# Altium footprint library BGA (1.27mm Pitch, Square2).PcbLib: 13 footprints (part 1 of 2)
Each footprint in its own frame and in the unit in brackets; x right, y up, seen from the top. Pads: shape width x height; smd on the part's side, far side on the other; paste and mask are expansions set on the pad; w line width, h text height; cw(c..) or ccw(c..) is an arc to the next point about the centre after c.
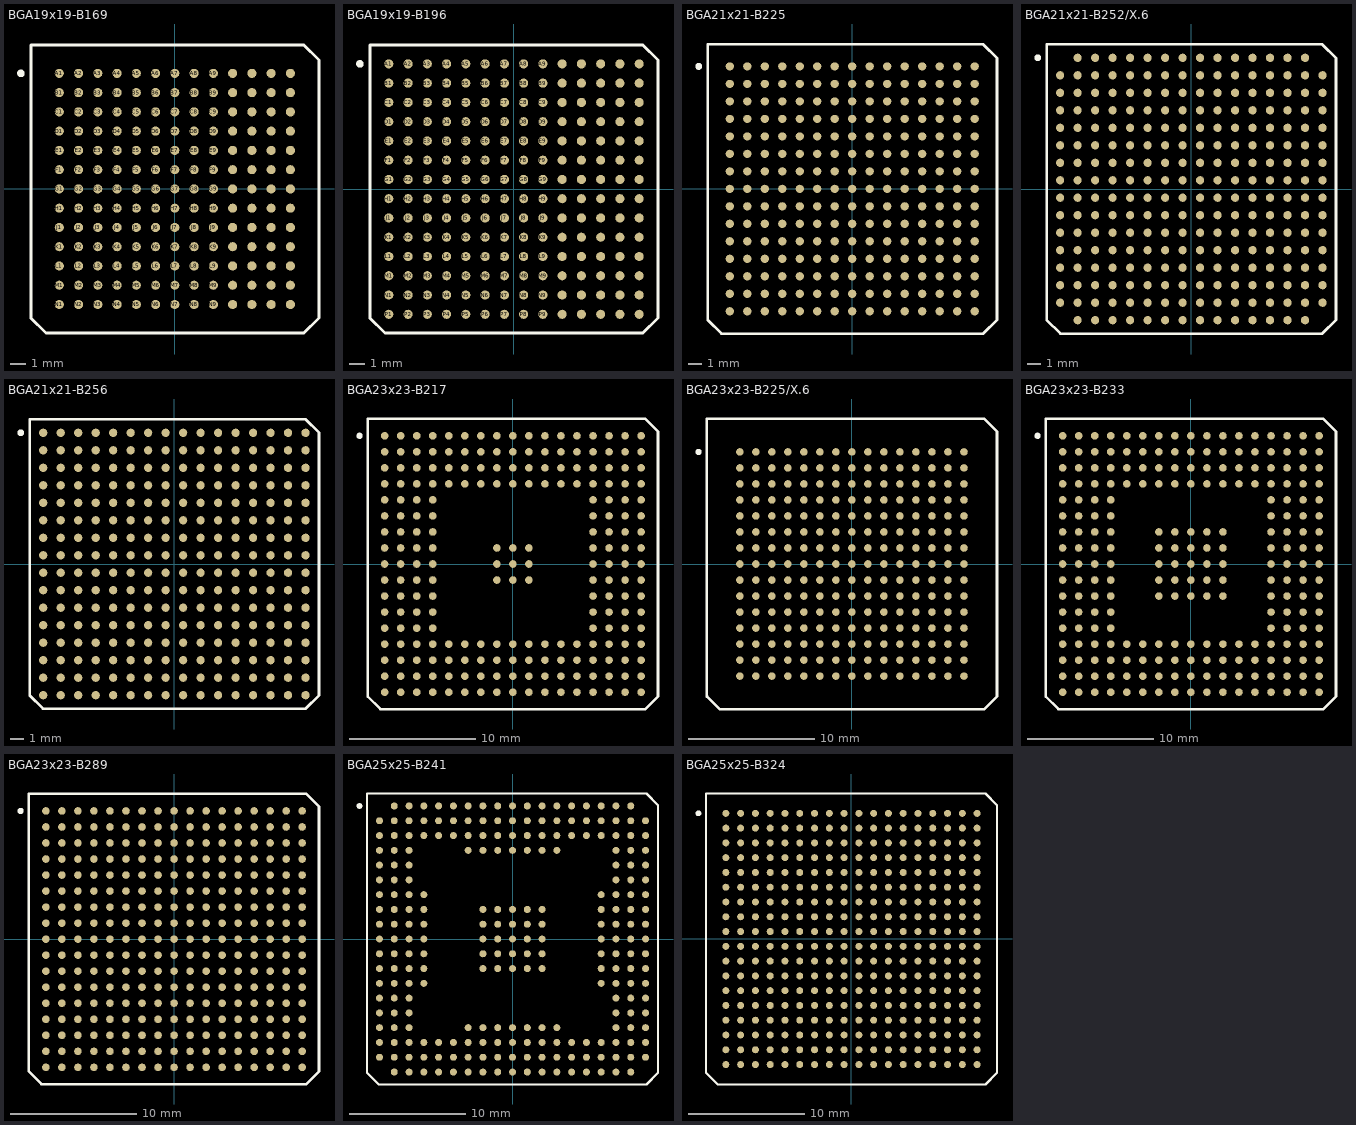
[diagram p0: the footprints below, top view; thin cyan lines are the x and y axes]

## BGA19x19-B169 [mm] "BGA; 169 Balls; Body 19 x 19 mm; Pitch 1.27 mm"
height 3.5
pads (169):
  round 0.6 smd: A1(-7.62,7.62) A2(-6.35,7.62) A3(-5.08,7.62) A4(-3.81,7.62) A5(-2.54,7.62) A6(-1.27,7.62) A7(0,7.62) A8(1.27,7.62) A9(2.54,7.62) A10(3.81,7.62) A11(5.08,7.62) A12(6.35,7.62) A13(7.62,7.62) B1(-7.62,6.35) B2(-6.35,6.35) B3(-5.08,6.35) B4(-3.81,6.35) B5(-2.54,6.35) B6(-1.27,6.35) B7(0,6.35) B8(1.27,6.35) B9(2.54,6.35) B10(3.81,6.35) B11(5.08,6.35) B12(6.35,6.35) B13(7.62,6.35) C1(-7.62,5.08) C2(-6.35,5.08) C3(-5.08,5.08) C4(-3.81,5.08) C5(-2.54,5.08) C6(-1.27,5.08) C7(0,5.08) C8(1.27,5.08) C9(2.54,5.08) C10(3.81,5.08) C11(5.08,5.08) C12(6.35,5.08) C13(7.62,5.08) D1(-7.62,3.81) D2(-6.35,3.81) D3(-5.08,3.81) D4(-3.81,3.81) D5(-2.54,3.81) D6(-1.27,3.81) D7(0,3.81) D8(1.27,3.81) D9(2.54,3.81) D10(3.81,3.81) D11(5.08,3.81) D12(6.35,3.81) D13(7.62,3.81) E1(-7.62,2.54) E2(-6.35,2.54) E3(-5.08,2.54) E4(-3.81,2.54) E5(-2.54,2.54) E6(-1.27,2.54) E7(0,2.54) E8(1.27,2.54) E9(2.54,2.54) E10(3.81,2.54) E11(5.08,2.54) E12(6.35,2.54) E13(7.62,2.54) F1(-7.62,1.27) F2(-6.35,1.27) F3(-5.08,1.27) F4(-3.81,1.27) F5(-2.54,1.27) F6(-1.27,1.27) F7(0,1.27) F8(1.27,1.27) F9(2.54,1.27) F10(3.81,1.27) F11(5.08,1.27) F12(6.35,1.27) F13(7.62,1.27) G1(-7.62,0) G2(-6.35,0) G3(-5.08,0) G4(-3.81,0) G5(-2.54,0) G6(-1.27,0) G7(0,0) G8(1.27,0) G9(2.54,0) G10(3.81,0) G11(5.08,0) G12(6.35,0) G13(7.62,0) H1(-7.62,-1.27) H2(-6.35,-1.27) H3(-5.08,-1.27) H4(-3.81,-1.27) H5(-2.54,-1.27) H6(-1.27,-1.27) H7(0,-1.27) H8(1.27,-1.27) H9(2.54,-1.27) H10(3.81,-1.27) H11(5.08,-1.27) H12(6.35,-1.27) H13(7.62,-1.27) J1(-7.62,-2.54) J2(-6.35,-2.54) J3(-5.08,-2.54) J4(-3.81,-2.54) J5(-2.54,-2.54) J6(-1.27,-2.54) J7(0,-2.54) J8(1.27,-2.54) J9(2.54,-2.54) J10(3.81,-2.54) J11(5.08,-2.54) J12(6.35,-2.54) J13(7.62,-2.54) K1(-7.62,-3.81) K2(-6.35,-3.81) K3(-5.08,-3.81) K4(-3.81,-3.81) K5(-2.54,-3.81) K6(-1.27,-3.81) K7(0,-3.81) K8(1.27,-3.81) K9(2.54,-3.81) K10(3.81,-3.81) K11(5.08,-3.81) K12(6.35,-3.81) K13(7.62,-3.81) L1(-7.62,-5.08) L2(-6.35,-5.08) L3(-5.08,-5.08) L4(-3.81,-5.08) L5(-2.54,-5.08) L6(-1.27,-5.08) L7(0,-5.08) L8(1.27,-5.08) L9(2.54,-5.08) L10(3.81,-5.08) L11(5.08,-5.08) L12(6.35,-5.08) L13(7.62,-5.08) M1(-7.62,-6.35) M2(-6.35,-6.35) M3(-5.08,-6.35) M4(-3.81,-6.35) M5(-2.54,-6.35) M6(-1.27,-6.35) M7(0,-6.35) M8(1.27,-6.35) M9(2.54,-6.35) M10(3.81,-6.35) M11(5.08,-6.35) M12(6.35,-6.35) M13(7.62,-6.35) N1(-7.62,-7.62) N2(-6.35,-7.62) N3(-5.08,-7.62) N4(-3.81,-7.62) N5(-2.54,-7.62) N6(-1.27,-7.62) N7(0,-7.62) N8(1.27,-7.62) N9(2.54,-7.62) N10(3.81,-7.62) N11(5.08,-7.62) N12(6.35,-7.62) N13(7.62,-7.62)
Top Overlay:
  circle w0.25: c-10.15,7.62 r0.125
  lines w0.2: -9.495,-8.505 -9.495,9.495 8.505,9.495 9.505,8.495 9.505,-8.505 8.505,-9.505 -8.495,-9.505 -9.495,-8.505

## BGA19x19-B196 [mm] "BGA; 196 Balls; Body 19 x 19 mm; Pitch 1.27 mm"
height 3.5
pads (196):
  round 0.6 smd: A1(-8.255,8.255) A2(-6.985,8.255) A3(-5.715,8.255) A4(-4.445,8.255) A5(-3.175,8.255) A6(-1.905,8.255) A7(-0.635,8.255) A8(0.635,8.255) A9(1.905,8.255) A10(3.175,8.255) A11(4.445,8.255) A12(5.715,8.255) A13(6.985,8.255) A14(8.255,8.255) B1(-8.255,6.985) B2(-6.985,6.985) B3(-5.715,6.985) B4(-4.445,6.985) B5(-3.175,6.985) B6(-1.905,6.985) B7(-0.635,6.985) B8(0.635,6.985) B9(1.905,6.985) B10(3.175,6.985) B11(4.445,6.985) B12(5.715,6.985) B13(6.985,6.985) B14(8.255,6.985) C1(-8.255,5.715) C2(-6.985,5.715) C3(-5.715,5.715) C4(-4.445,5.715) C5(-3.175,5.715) C6(-1.905,5.715) C7(-0.635,5.715) C8(0.635,5.715) C9(1.905,5.715) C10(3.175,5.715) C11(4.445,5.715) C12(5.715,5.715) C13(6.985,5.715) C14(8.255,5.715) D1(-8.255,4.445) D2(-6.985,4.445) D3(-5.715,4.445) D4(-4.445,4.445) D5(-3.175,4.445) D6(-1.905,4.445) D7(-0.635,4.445) D8(0.635,4.445) D9(1.905,4.445) D10(3.175,4.445) D11(4.445,4.445) D12(5.715,4.445) D13(6.985,4.445) D14(8.255,4.445) E1(-8.255,3.175) E2(-6.985,3.175) E3(-5.715,3.175) E4(-4.445,3.175) E5(-3.175,3.175) E6(-1.905,3.175) E7(-0.635,3.175) E8(0.635,3.175) E9(1.905,3.175) E10(3.175,3.175) E11(4.445,3.175) E12(5.715,3.175) E13(6.985,3.175) E14(8.255,3.175) F1(-8.255,1.905) F2(-6.985,1.905) F3(-5.715,1.905) F4(-4.445,1.905) F5(-3.175,1.905) F6(-1.905,1.905) F7(-0.635,1.905) F8(0.635,1.905) F9(1.905,1.905) F10(3.175,1.905) F11(4.445,1.905) F12(5.715,1.905) F13(6.985,1.905) F14(8.255,1.905) G1(-8.255,0.635) G2(-6.985,0.635) G3(-5.715,0.635) G4(-4.445,0.635) G5(-3.175,0.635) G6(-1.905,0.635) G7(-0.635,0.635) G8(0.635,0.635) G9(1.905,0.635) G10(3.175,0.635) G11(4.445,0.635) G12(5.715,0.635) G13(6.985,0.635) G14(8.255,0.635) H1(-8.255,-0.635) H2(-6.985,-0.635) H3(-5.715,-0.635) H4(-4.445,-0.635) H5(-3.175,-0.635) H6(-1.905,-0.635) H7(-0.635,-0.635) H8(0.635,-0.635) H9(1.905,-0.635) H10(3.175,-0.635) H11(4.445,-0.635) H12(5.715,-0.635) H13(6.985,-0.635) H14(8.255,-0.635) J1(-8.255,-1.905) J2(-6.985,-1.905) J3(-5.715,-1.905) J4(-4.445,-1.905) J5(-3.175,-1.905) J6(-1.905,-1.905) J7(-0.635,-1.905) J8(0.635,-1.905) J9(1.905,-1.905) J10(3.175,-1.905) J11(4.445,-1.905) J12(5.715,-1.905) J13(6.985,-1.905) J14(8.255,-1.905) K1(-8.255,-3.175) K2(-6.985,-3.175) K3(-5.715,-3.175) K4(-4.445,-3.175) K5(-3.175,-3.175) K6(-1.905,-3.175) K7(-0.635,-3.175) K8(0.635,-3.175) K9(1.905,-3.175) K10(3.175,-3.175) K11(4.445,-3.175) K12(5.715,-3.175) K13(6.985,-3.175) K14(8.255,-3.175) L1(-8.255,-4.445) L2(-6.985,-4.445) L3(-5.715,-4.445) L4(-4.445,-4.445) L5(-3.175,-4.445) L6(-1.905,-4.445) L7(-0.635,-4.445) L8(0.635,-4.445) L9(1.905,-4.445) L10(3.175,-4.445) L11(4.445,-4.445) L12(5.715,-4.445) L13(6.985,-4.445) L14(8.255,-4.445) M1(-8.255,-5.715) M2(-6.985,-5.715) M3(-5.715,-5.715) M4(-4.445,-5.715) M5(-3.175,-5.715) M6(-1.905,-5.715) M7(-0.635,-5.715) M8(0.635,-5.715) M9(1.905,-5.715) M10(3.175,-5.715) M11(4.445,-5.715) M12(5.715,-5.715) M13(6.985,-5.715) M14(8.255,-5.715) N1(-8.255,-6.985) N2(-6.985,-6.985) N3(-5.715,-6.985) N4(-4.445,-6.985) N5(-3.175,-6.985) N6(-1.905,-6.985) N7(-0.635,-6.985) N8(0.635,-6.985) N9(1.905,-6.985) N10(3.175,-6.985) N11(4.445,-6.985) N12(5.715,-6.985) N13(6.985,-6.985) N14(8.255,-6.985) P1(-8.255,-8.255) P2(-6.985,-8.255) P3(-5.715,-8.255) P4(-4.445,-8.255) P5(-3.175,-8.255) P6(-1.905,-8.255) P7(-0.635,-8.255) P8(0.635,-8.255) P9(1.905,-8.255) P10(3.175,-8.255) P11(4.445,-8.255) P12(5.715,-8.255) P13(6.985,-8.255) P14(8.255,-8.255)
Top Overlay:
  circle w0.25: c-10.16,8.255 r0.125
  lines w0.2: -9.505,-8.495 -8.505,-9.495 8.495,-9.495 9.495,-8.495 9.495,8.505 8.495,9.505 -9.505,9.505 -9.505,-8.495

## BGA21x21-B225 [mm] "BGA; 225 Balls; Body 21 x 21 mm; Pitch 1.27 mm"
height 3.5
pads (225):
  round 0.6 smd: A1(-8.89,8.89) A2(-7.62,8.89) A3(-6.35,8.89) A4(-5.08,8.89) A5(-3.81,8.89) A6(-2.54,8.89) A7(-1.27,8.89) A8(0,8.89) A9(1.27,8.89) A10(2.54,8.89) A11(3.81,8.89) A12(5.08,8.89) A13(6.35,8.89) A14(7.62,8.89) A15(8.89,8.89) B1(-8.89,7.62) B2(-7.62,7.62) B3(-6.35,7.62) B4(-5.08,7.62) B5(-3.81,7.62) B6(-2.54,7.62) B7(-1.27,7.62) B8(0,7.62) B9(1.27,7.62) B10(2.54,7.62) B11(3.81,7.62) B12(5.08,7.62) B13(6.35,7.62) B14(7.62,7.62) B15(8.89,7.62) C1(-8.89,6.35) C2(-7.62,6.35) C3(-6.35,6.35) C4(-5.08,6.35) C5(-3.81,6.35) C6(-2.54,6.35) C7(-1.27,6.35) C8(0,6.35) C9(1.27,6.35) C10(2.54,6.35) C11(3.81,6.35) C12(5.08,6.35) C13(6.35,6.35) C14(7.62,6.35) C15(8.89,6.35) D1(-8.89,5.08) D2(-7.62,5.08) D3(-6.35,5.08) D4(-5.08,5.08) D5(-3.81,5.08) D6(-2.54,5.08) D7(-1.27,5.08) D8(0,5.08) D9(1.27,5.08) D10(2.54,5.08) D11(3.81,5.08) D12(5.08,5.08) D13(6.35,5.08) D14(7.62,5.08) D15(8.89,5.08) E1(-8.89,3.81) E2(-7.62,3.81) E3(-6.35,3.81) E4(-5.08,3.81) E5(-3.81,3.81) E6(-2.54,3.81) E7(-1.27,3.81) E8(0,3.81) E9(1.27,3.81) E10(2.54,3.81) E11(3.81,3.81) E12(5.08,3.81) E13(6.35,3.81) E14(7.62,3.81) E15(8.89,3.81) F1(-8.89,2.54) F2(-7.62,2.54) F3(-6.35,2.54) F4(-5.08,2.54) F5(-3.81,2.54) F6(-2.54,2.54) F7(-1.27,2.54) F8(0,2.54) F9(1.27,2.54) F10(2.54,2.54) F11(3.81,2.54) F12(5.08,2.54) F13(6.35,2.54) F14(7.62,2.54) F15(8.89,2.54) G1(-8.89,1.27) G2(-7.62,1.27) G3(-6.35,1.27) G4(-5.08,1.27) G5(-3.81,1.27) G6(-2.54,1.27) G7(-1.27,1.27) G8(0,1.27) G9(1.27,1.27) G10(2.54,1.27) G11(3.81,1.27) G12(5.08,1.27) G13(6.35,1.27) G14(7.62,1.27) G15(8.89,1.27) H1(-8.89,0) H2(-7.62,0) H3(-6.35,0) H4(-5.08,0) H5(-3.81,0) H6(-2.54,0) H7(-1.27,0) H8(0,0) H9(1.27,0) H10(2.54,0) H11(3.81,0) H12(5.08,0) H13(6.35,0) H14(7.62,0) H15(8.89,0) J1(-8.89,-1.27) J2(-7.62,-1.27) J3(-6.35,-1.27) J4(-5.08,-1.27) J5(-3.81,-1.27) J6(-2.54,-1.27) J7(-1.27,-1.27) J8(0,-1.27) J9(1.27,-1.27) J10(2.54,-1.27) J11(3.81,-1.27) J12(5.08,-1.27) J13(6.35,-1.27) J14(7.62,-1.27) J15(8.89,-1.27) K1(-8.89,-2.54) K2(-7.62,-2.54) K3(-6.35,-2.54) K4(-5.08,-2.54) K5(-3.81,-2.54) K6(-2.54,-2.54) K7(-1.27,-2.54) K8(0,-2.54) K9(1.27,-2.54) K10(2.54,-2.54) K11(3.81,-2.54) K12(5.08,-2.54) K13(6.35,-2.54) K14(7.62,-2.54) K15(8.89,-2.54) L1(-8.89,-3.81) L2(-7.62,-3.81) L3(-6.35,-3.81) L4(-5.08,-3.81) L5(-3.81,-3.81) L6(-2.54,-3.81) L7(-1.27,-3.81) L8(0,-3.81) L9(1.27,-3.81) L10(2.54,-3.81) L11(3.81,-3.81) L12(5.08,-3.81) L13(6.35,-3.81) L14(7.62,-3.81) L15(8.89,-3.81) M1(-8.89,-5.08) M2(-7.62,-5.08) M3(-6.35,-5.08) M4(-5.08,-5.08) M5(-3.81,-5.08) M6(-2.54,-5.08) M7(-1.27,-5.08) M8(0,-5.08) M9(1.27,-5.08) M10(2.54,-5.08) M11(3.81,-5.08) M12(5.08,-5.08) M13(6.35,-5.08) M14(7.62,-5.08) M15(8.89,-5.08) N1(-8.89,-6.35) N2(-7.62,-6.35) N3(-6.35,-6.35) N4(-5.08,-6.35) N5(-3.81,-6.35) N6(-2.54,-6.35) N7(-1.27,-6.35) N8(0,-6.35) N9(1.27,-6.35) N10(2.54,-6.35) N11(3.81,-6.35) N12(5.08,-6.35) N13(6.35,-6.35) N14(7.62,-6.35) N15(8.89,-6.35) P1(-8.89,-7.62) P2(-7.62,-7.62) P3(-6.35,-7.62) P4(-5.08,-7.62) P5(-3.81,-7.62) P6(-2.54,-7.62) P7(-1.27,-7.62) P8(0,-7.62) P9(1.27,-7.62) P10(2.54,-7.62) P11(3.81,-7.62) P12(5.08,-7.62) P13(6.35,-7.62) P14(7.62,-7.62) P15(8.89,-7.62) R1(-8.89,-8.89) R2(-7.62,-8.89) R3(-6.35,-8.89) R4(-5.08,-8.89) R5(-3.81,-8.89) R6(-2.54,-8.89) R7(-1.27,-8.89) R8(0,-8.89) R9(1.27,-8.89) R10(2.54,-8.89) R11(3.81,-8.89) R12(5.08,-8.89) R13(6.35,-8.89) R14(7.62,-8.89) R15(8.89,-8.89)
Top Overlay:
  circle w0.25: c-11.145,8.89 r0.125
  lines w0.2: -10.49,-9.51 -9.49,-10.51 9.51,-10.51 10.51,-9.51 10.51,9.49 9.51,10.49 -10.49,10.49 -10.49,-9.51

## BGA21x21-B252/X.6 [mm] "MAP-BGA; 252 Balls; Body 21 x 21 mm; Pitch 1.27 mm"
height 1.9
pads (252):
  round 0.6 smd: A2(-8.255,9.525) A3(-6.985,9.525) A4(-5.715,9.525) A5(-4.445,9.525) A6(-3.175,9.525) A7(-1.905,9.525) A8(-0.635,9.525) A9(0.635,9.525) A10(1.905,9.525) A11(3.175,9.525) A12(4.445,9.525) A13(5.715,9.525) A14(6.985,9.525) A15(8.255,9.525) B1(-9.525,8.255) B2(-8.255,8.255) B3(-6.985,8.255) B4(-5.715,8.255) B5(-4.445,8.255) B6(-3.175,8.255) B7(-1.905,8.255) B8(-0.635,8.255) B9(0.635,8.255) B10(1.905,8.255) B11(3.175,8.255) B12(4.445,8.255) B13(5.715,8.255) B14(6.985,8.255) B15(8.255,8.255) B16(9.525,8.255) C1(-9.525,6.985) C2(-8.255,6.985) C3(-6.985,6.985) C4(-5.715,6.985) C5(-4.445,6.985) C6(-3.175,6.985) C7(-1.905,6.985) C8(-0.635,6.985) C9(0.635,6.985) C10(1.905,6.985) C11(3.175,6.985) C12(4.445,6.985) C13(5.715,6.985) C14(6.985,6.985) C15(8.255,6.985) C16(9.525,6.985) D1(-9.525,5.715) D2(-8.255,5.715) D3(-6.985,5.715) D4(-5.715,5.715) D5(-4.445,5.715) D6(-3.175,5.715) D7(-1.905,5.715) D8(-0.635,5.715) D9(0.635,5.715) D10(1.905,5.715) D11(3.175,5.715) D12(4.445,5.715) D13(5.715,5.715) D14(6.985,5.715) D15(8.255,5.715) D16(9.525,5.715) E1(-9.525,4.445) E2(-8.255,4.445) E3(-6.985,4.445) E4(-5.715,4.445) E5(-4.445,4.445) E6(-3.175,4.445) E7(-1.905,4.445) E8(-0.635,4.445) E9(0.635,4.445) E10(1.905,4.445) E11(3.175,4.445) E12(4.445,4.445) E13(5.715,4.445) E14(6.985,4.445) E15(8.255,4.445) E16(9.525,4.445) F1(-9.525,3.175) F2(-8.255,3.175) F3(-6.985,3.175) F4(-5.715,3.175) F5(-4.445,3.175) F6(-3.175,3.175) F7(-1.905,3.175) F8(-0.635,3.175) F9(0.635,3.175) F10(1.905,3.175) F11(3.175,3.175) F12(4.445,3.175) F13(5.715,3.175) F14(6.985,3.175) F15(8.255,3.175) F16(9.525,3.175) G1(-9.525,1.905) G2(-8.255,1.905) G3(-6.985,1.905) G4(-5.715,1.905) G5(-4.445,1.905) G6(-3.175,1.905) G7(-1.905,1.905) G8(-0.635,1.905) G9(0.635,1.905) G10(1.905,1.905) G11(3.175,1.905) G12(4.445,1.905) G13(5.715,1.905) G14(6.985,1.905) G15(8.255,1.905) G16(9.525,1.905) H1(-9.525,0.635) H2(-8.255,0.635) H3(-6.985,0.635) H4(-5.715,0.635) H5(-4.445,0.635) H6(-3.175,0.635) H7(-1.905,0.635) H8(-0.635,0.635) H9(0.635,0.635) H10(1.905,0.635) H11(3.175,0.635) H12(4.445,0.635) H13(5.715,0.635) H14(6.985,0.635) H15(8.255,0.635) H16(9.525,0.635) J1(-9.525,-0.635) J2(-8.255,-0.635) J3(-6.985,-0.635) J4(-5.715,-0.635) J5(-4.445,-0.635) J6(-3.175,-0.635) J7(-1.905,-0.635) J8(-0.635,-0.635) J9(0.635,-0.635) J10(1.905,-0.635) J11(3.175,-0.635) J12(4.445,-0.635) J13(5.715,-0.635) J14(6.985,-0.635) J15(8.255,-0.635) J16(9.525,-0.635) K1(-9.525,-1.905) K2(-8.255,-1.905) K3(-6.985,-1.905) K4(-5.715,-1.905) K5(-4.445,-1.905) K6(-3.175,-1.905) K7(-1.905,-1.905) K8(-0.635,-1.905) K9(0.635,-1.905) K10(1.905,-1.905) K11(3.175,-1.905) K12(4.445,-1.905) K13(5.715,-1.905) K14(6.985,-1.905) K15(8.255,-1.905) K16(9.525,-1.905) L1(-9.525,-3.175) L2(-8.255,-3.175) L3(-6.985,-3.175) L4(-5.715,-3.175) L5(-4.445,-3.175) L6(-3.175,-3.175) L7(-1.905,-3.175) L8(-0.635,-3.175) L9(0.635,-3.175) L10(1.905,-3.175) L11(3.175,-3.175) L12(4.445,-3.175) L13(5.715,-3.175) L14(6.985,-3.175) L15(8.255,-3.175) L16(9.525,-3.175) M1(-9.525,-4.445) M2(-8.255,-4.445) M3(-6.985,-4.445) M4(-5.715,-4.445) M5(-4.445,-4.445) M6(-3.175,-4.445) M7(-1.905,-4.445) M8(-0.635,-4.445) M9(0.635,-4.445) M10(1.905,-4.445) M11(3.175,-4.445) M12(4.445,-4.445) M13(5.715,-4.445) M14(6.985,-4.445) M15(8.255,-4.445) M16(9.525,-4.445) N1(-9.525,-5.715) N2(-8.255,-5.715) N3(-6.985,-5.715) N4(-5.715,-5.715) N5(-4.445,-5.715) N6(-3.175,-5.715) N7(-1.905,-5.715) N8(-0.635,-5.715) N9(0.635,-5.715) N10(1.905,-5.715) N11(3.175,-5.715) N12(4.445,-5.715) N13(5.715,-5.715) N14(6.985,-5.715) N15(8.255,-5.715) N16(9.525,-5.715) P1(-9.525,-6.985) P2(-8.255,-6.985) P3(-6.985,-6.985) P4(-5.715,-6.985) P5(-4.445,-6.985) P6(-3.175,-6.985) P7(-1.905,-6.985) P8(-0.635,-6.985) P9(0.635,-6.985) P10(1.905,-6.985) P11(3.175,-6.985) P12(4.445,-6.985) P13(5.715,-6.985) P14(6.985,-6.985) P15(8.255,-6.985) P16(9.525,-6.985) R1(-9.525,-8.255) R2(-8.255,-8.255) R3(-6.985,-8.255) R4(-5.715,-8.255) R5(-4.445,-8.255) R6(-3.175,-8.255) R7(-1.905,-8.255) R8(-0.635,-8.255) R9(0.635,-8.255) R10(1.905,-8.255) R11(3.175,-8.255) R12(4.445,-8.255) R13(5.715,-8.255) R14(6.985,-8.255) R15(8.255,-8.255) R16(9.525,-8.255) T2(-8.255,-9.525) T3(-6.985,-9.525) T4(-5.715,-9.525) T5(-4.445,-9.525) T6(-3.175,-9.525) T7(-1.905,-9.525) T8(-0.635,-9.525) T9(0.635,-9.525) T10(1.905,-9.525) T11(3.175,-9.525) T12(4.445,-9.525) T13(5.715,-9.525) T14(6.985,-9.525) T15(8.255,-9.525)
Top Overlay:
  circle w0.25: c-11.15,9.525 r0.125
  lines w0.2: -10.5,-9.5 -9.5,-10.5 9.5,-10.5 10.5,-9.5 10.5,9.5 9.5,10.5 -10.5,10.5 -10.5,-9.5

## BGA21x21-B256 [mm] "BGA; 256 Balls; Body 21 x 21 mm; Pitch 1.27 mm"
height 3.5
pads (256):
  round 0.6 smd: A1(-9.525,9.525) A2(-8.255,9.525) A3(-6.985,9.525) A4(-5.715,9.525) A5(-4.445,9.525) A6(-3.175,9.525) A7(-1.905,9.525) A8(-0.635,9.525) A9(0.635,9.525) A10(1.905,9.525) A11(3.175,9.525) A12(4.445,9.525) A13(5.715,9.525) A14(6.985,9.525) A15(8.255,9.525) A16(9.525,9.525) B1(-9.525,8.255) B2(-8.255,8.255) B3(-6.985,8.255) B4(-5.715,8.255) B5(-4.445,8.255) B6(-3.175,8.255) B7(-1.905,8.255) B8(-0.635,8.255) B9(0.635,8.255) B10(1.905,8.255) B11(3.175,8.255) B12(4.445,8.255) B13(5.715,8.255) B14(6.985,8.255) B15(8.255,8.255) B16(9.525,8.255) C1(-9.525,6.985) C2(-8.255,6.985) C3(-6.985,6.985) C4(-5.715,6.985) C5(-4.445,6.985) C6(-3.175,6.985) C7(-1.905,6.985) C8(-0.635,6.985) C9(0.635,6.985) C10(1.905,6.985) C11(3.175,6.985) C12(4.445,6.985) C13(5.715,6.985) C14(6.985,6.985) C15(8.255,6.985) C16(9.525,6.985) D1(-9.525,5.715) D2(-8.255,5.715) D3(-6.985,5.715) D4(-5.715,5.715) D5(-4.445,5.715) D6(-3.175,5.715) D7(-1.905,5.715) D8(-0.635,5.715) D9(0.635,5.715) D10(1.905,5.715) D11(3.175,5.715) D12(4.445,5.715) D13(5.715,5.715) D14(6.985,5.715) D15(8.255,5.715) D16(9.525,5.715) E1(-9.525,4.445) E2(-8.255,4.445) E3(-6.985,4.445) E4(-5.715,4.445) E5(-4.445,4.445) E6(-3.175,4.445) E7(-1.905,4.445) E8(-0.635,4.445) E9(0.635,4.445) E10(1.905,4.445) E11(3.175,4.445) E12(4.445,4.445) E13(5.715,4.445) E14(6.985,4.445) E15(8.255,4.445) E16(9.525,4.445) F1(-9.525,3.175) F2(-8.255,3.175) F3(-6.985,3.175) F4(-5.715,3.175) F5(-4.445,3.175) F6(-3.175,3.175) F7(-1.905,3.175) F8(-0.635,3.175) F9(0.635,3.175) F10(1.905,3.175) F11(3.175,3.175) F12(4.445,3.175) F13(5.715,3.175) F14(6.985,3.175) F15(8.255,3.175) F16(9.525,3.175) G1(-9.525,1.905) G2(-8.255,1.905) G3(-6.985,1.905) G4(-5.715,1.905) G5(-4.445,1.905) G6(-3.175,1.905) G7(-1.905,1.905) G8(-0.635,1.905) G9(0.635,1.905) G10(1.905,1.905) G11(3.175,1.905) G12(4.445,1.905) G13(5.715,1.905) G14(6.985,1.905) G15(8.255,1.905) G16(9.525,1.905) H1(-9.525,0.635) H2(-8.255,0.635) H3(-6.985,0.635) H4(-5.715,0.635) H5(-4.445,0.635) H6(-3.175,0.635) H7(-1.905,0.635) H8(-0.635,0.635) H9(0.635,0.635) H10(1.905,0.635) H11(3.175,0.635) H12(4.445,0.635) H13(5.715,0.635) H14(6.985,0.635) H15(8.255,0.635) H16(9.525,0.635) J1(-9.525,-0.635) J2(-8.255,-0.635) J3(-6.985,-0.635) J4(-5.715,-0.635) J5(-4.445,-0.635) J6(-3.175,-0.635) J7(-1.905,-0.635) J8(-0.635,-0.635) J9(0.635,-0.635) J10(1.905,-0.635) J11(3.175,-0.635) J12(4.445,-0.635) J13(5.715,-0.635) J14(6.985,-0.635) J15(8.255,-0.635) J16(9.525,-0.635) K1(-9.525,-1.905) K2(-8.255,-1.905) K3(-6.985,-1.905) K4(-5.715,-1.905) K5(-4.445,-1.905) K6(-3.175,-1.905) K7(-1.905,-1.905) K8(-0.635,-1.905) K9(0.635,-1.905) K10(1.905,-1.905) K11(3.175,-1.905) K12(4.445,-1.905) K13(5.715,-1.905) K14(6.985,-1.905) K15(8.255,-1.905) K16(9.525,-1.905) L1(-9.525,-3.175) L2(-8.255,-3.175) L3(-6.985,-3.175) L4(-5.715,-3.175) L5(-4.445,-3.175) L6(-3.175,-3.175) L7(-1.905,-3.175) L8(-0.635,-3.175) L9(0.635,-3.175) L10(1.905,-3.175) L11(3.175,-3.175) L12(4.445,-3.175) L13(5.715,-3.175) L14(6.985,-3.175) L15(8.255,-3.175) L16(9.525,-3.175) M1(-9.525,-4.445) M2(-8.255,-4.445) M3(-6.985,-4.445) M4(-5.715,-4.445) M5(-4.445,-4.445) M6(-3.175,-4.445) M7(-1.905,-4.445) M8(-0.635,-4.445) M9(0.635,-4.445) M10(1.905,-4.445) M11(3.175,-4.445) M12(4.445,-4.445) M13(5.715,-4.445) M14(6.985,-4.445) M15(8.255,-4.445) M16(9.525,-4.445) N1(-9.525,-5.715) N2(-8.255,-5.715) N3(-6.985,-5.715) N4(-5.715,-5.715) N5(-4.445,-5.715) N6(-3.175,-5.715) N7(-1.905,-5.715) N8(-0.635,-5.715) N9(0.635,-5.715) N10(1.905,-5.715) N11(3.175,-5.715) N12(4.445,-5.715) N13(5.715,-5.715) N14(6.985,-5.715) N15(8.255,-5.715) N16(9.525,-5.715) P1(-9.525,-6.985) P2(-8.255,-6.985) P3(-6.985,-6.985) P4(-5.715,-6.985) P5(-4.445,-6.985) P6(-3.175,-6.985) P7(-1.905,-6.985) P8(-0.635,-6.985) P9(0.635,-6.985) P10(1.905,-6.985) P11(3.175,-6.985) P12(4.445,-6.985) P13(5.715,-6.985) P14(6.985,-6.985) P15(8.255,-6.985) P16(9.525,-6.985) R1(-9.525,-8.255) R2(-8.255,-8.255) R3(-6.985,-8.255) R4(-5.715,-8.255) R5(-4.445,-8.255) R6(-3.175,-8.255) R7(-1.905,-8.255) R8(-0.635,-8.255) R9(0.635,-8.255) R10(1.905,-8.255) R11(3.175,-8.255) R12(4.445,-8.255) R13(5.715,-8.255) R14(6.985,-8.255) R15(8.255,-8.255) R16(9.525,-8.255) T1(-9.525,-9.525) T2(-8.255,-9.525) T3(-6.985,-9.525) T4(-5.715,-9.525) T5(-4.445,-9.525) T6(-3.175,-9.525) T7(-1.905,-9.525) T8(-0.635,-9.525) T9(0.635,-9.525) T10(1.905,-9.525) T11(3.175,-9.525) T12(4.445,-9.525) T13(5.715,-9.525) T14(6.985,-9.525) T15(8.255,-9.525) T16(9.525,-9.525)
Top Overlay:
  circle w0.25: c-11.155,9.525 r0.125
  lines w0.2: -10.5,-9.54 -10.5,10.5 9.54,10.5 10.5,9.54 10.5,-9.54 9.54,-10.5 -9.54,-10.5 -10.5,-9.54

## BGA23x23-B217 [mm] "BGA, Thermally Enhanced; 217 Balls; Body 23 x 23 mm; Pitch 1.27 mm"
height 2.65
pads (217):
  round 0.6 smd: A1(-10.16,10.16) A2(-8.89,10.16) A3(-7.62,10.16) A4(-6.35,10.16) A5(-5.08,10.16) A6(-3.81,10.16) A7(-2.54,10.16) A8(-1.27,10.16) A9(0,10.16) A10(1.27,10.16) A11(2.54,10.16) A12(3.81,10.16) A13(5.08,10.16) A14(6.35,10.16) A15(7.62,10.16) A16(8.89,10.16) A17(10.16,10.16) B1(-10.16,8.89) B2(-8.89,8.89) B3(-7.62,8.89) B4(-6.35,8.89) B5(-5.08,8.89) B6(-3.81,8.89) B7(-2.54,8.89) B8(-1.27,8.89) B9(0,8.89) B10(1.27,8.89) B11(2.54,8.89) B12(3.81,8.89) B13(5.08,8.89) B14(6.35,8.89) B15(7.62,8.89) B16(8.89,8.89) B17(10.16,8.89) C1(-10.16,7.62) C2(-8.89,7.62) C3(-7.62,7.62) C4(-6.35,7.62) C5(-5.08,7.62) C6(-3.81,7.62) C7(-2.54,7.62) C8(-1.27,7.62) C9(0,7.62) C10(1.27,7.62) C11(2.54,7.62) C12(3.81,7.62) C13(5.08,7.62) C14(6.35,7.62) C15(7.62,7.62) C16(8.89,7.62) C17(10.16,7.62) D1(-10.16,6.35) D2(-8.89,6.35) D3(-7.62,6.35) D4(-6.35,6.35) D5(-5.08,6.35) D6(-3.81,6.35) D7(-2.54,6.35) D8(-1.27,6.35) D9(0,6.35) D10(1.27,6.35) D11(2.54,6.35) D12(3.81,6.35) D13(5.08,6.35) D14(6.35,6.35) D15(7.62,6.35) D16(8.89,6.35) D17(10.16,6.35) E1(-10.16,5.08) E2(-8.89,5.08) E3(-7.62,5.08) E4(-6.35,5.08) E14(6.35,5.08) E15(7.62,5.08) E16(8.89,5.08) E17(10.16,5.08) F1(-10.16,3.81) F2(-8.89,3.81) F3(-7.62,3.81) F4(-6.35,3.81) F14(6.35,3.81) F15(7.62,3.81) F16(8.89,3.81) F17(10.16,3.81) G1(-10.16,2.54) G2(-8.89,2.54) G3(-7.62,2.54) G4(-6.35,2.54) G14(6.35,2.54) G15(7.62,2.54) G16(8.89,2.54) G17(10.16,2.54) H1(-10.16,1.27) H2(-8.89,1.27) H3(-7.62,1.27) H4(-6.35,1.27) H8(-1.27,1.27) H9(0,1.27) H10(1.27,1.27) H14(6.35,1.27) H15(7.62,1.27) H16(8.89,1.27) H17(10.16,1.27) J1(-10.16,0) J2(-8.89,0) J3(-7.62,0) J4(-6.35,0) J8(-1.27,0) J9(0,0) J10(1.27,0) J14(6.35,0) J15(7.62,0) J16(8.89,0) J17(10.16,0) K1(-10.16,-1.27) K2(-8.89,-1.27) K3(-7.62,-1.27) K4(-6.35,-1.27) K8(-1.27,-1.27) K9(0,-1.27) K10(1.27,-1.27) K14(6.35,-1.27) K15(7.62,-1.27) K16(8.89,-1.27) K17(10.16,-1.27) L1(-10.16,-2.54) L2(-8.89,-2.54) L3(-7.62,-2.54) L4(-6.35,-2.54) L14(6.35,-2.54) L15(7.62,-2.54) L16(8.89,-2.54) L17(10.16,-2.54) M1(-10.16,-3.81) M2(-8.89,-3.81) M3(-7.62,-3.81) M4(-6.35,-3.81) M14(6.35,-3.81) M15(7.62,-3.81) M16(8.89,-3.81) M17(10.16,-3.81) N1(-10.16,-5.08) N2(-8.89,-5.08) N3(-7.62,-5.08) N4(-6.35,-5.08) N14(6.35,-5.08) N15(7.62,-5.08) N16(8.89,-5.08) N17(10.16,-5.08) P1(-10.16,-6.35) P2(-8.89,-6.35) P3(-7.62,-6.35) P4(-6.35,-6.35) P5(-5.08,-6.35) P6(-3.81,-6.35) P7(-2.54,-6.35) P8(-1.27,-6.35) P9(0,-6.35) P10(1.27,-6.35) P11(2.54,-6.35) P12(3.81,-6.35) P13(5.08,-6.35) P14(6.35,-6.35) P15(7.62,-6.35) P16(8.89,-6.35) P17(10.16,-6.35) R1(-10.16,-7.62) R2(-8.89,-7.62) R3(-7.62,-7.62) R4(-6.35,-7.62) R5(-5.08,-7.62) R6(-3.81,-7.62) R7(-2.54,-7.62) R8(-1.27,-7.62) R9(0,-7.62) R10(1.27,-7.62) R11(2.54,-7.62) R12(3.81,-7.62) R13(5.08,-7.62) R14(6.35,-7.62) R15(7.62,-7.62) R16(8.89,-7.62) R17(10.16,-7.62) T1(-10.16,-8.89) T2(-8.89,-8.89) T3(-7.62,-8.89) T4(-6.35,-8.89) T5(-5.08,-8.89) T6(-3.81,-8.89) T7(-2.54,-8.89) T8(-1.27,-8.89) T9(0,-8.89) T10(1.27,-8.89) T11(2.54,-8.89) T12(3.81,-8.89) T13(5.08,-8.89) T14(6.35,-8.89) T15(7.62,-8.89) T16(8.89,-8.89) T17(10.16,-8.89) U1(-10.16,-10.16) U2(-8.89,-10.16) U3(-7.62,-10.16) U4(-6.35,-10.16) U5(-5.08,-10.16) U6(-3.81,-10.16) U7(-2.54,-10.16) U8(-1.27,-10.16) U9(0,-10.16) U10(1.27,-10.16) U11(2.54,-10.16) U12(3.81,-10.16) U13(5.08,-10.16) U14(6.35,-10.16) U15(7.62,-10.16) U16(8.89,-10.16) U17(10.16,-10.16)
Top Overlay:
  circle w0.25: c-12.15,10.16 r0.125
  lines w0.2: -11.5,-10.5 -11.5,11.5 10.5,11.5 11.5,10.5 11.5,-10.5 10.5,-11.5 -10.5,-11.5 -11.5,-10.5

## BGA23x23-B225/X.6 [mm] "BGA; 225 Balls; Body 23 x 23 mm; Pitch 1.27 mm"
height 2.57
pads (225):
  round 0.6 smd: A1(-8.89,8.89) A2(-7.62,8.89) A3(-6.35,8.89) A4(-5.08,8.89) A5(-3.81,8.89) A6(-2.54,8.89) A7(-1.27,8.89) A8(0,8.89) A9(1.27,8.89) A10(2.54,8.89) A11(3.81,8.89) A12(5.08,8.89) A13(6.35,8.89) A14(7.62,8.89) A15(8.89,8.89) B1(-8.89,7.62) B2(-7.62,7.62) B3(-6.35,7.62) B4(-5.08,7.62) B5(-3.81,7.62) B6(-2.54,7.62) B7(-1.27,7.62) B8(0,7.62) B9(1.27,7.62) B10(2.54,7.62) B11(3.81,7.62) B12(5.08,7.62) B13(6.35,7.62) B14(7.62,7.62) B15(8.89,7.62) C1(-8.89,6.35) C2(-7.62,6.35) C3(-6.35,6.35) C4(-5.08,6.35) C5(-3.81,6.35) C6(-2.54,6.35) C7(-1.27,6.35) C8(0,6.35) C9(1.27,6.35) C10(2.54,6.35) C11(3.81,6.35) C12(5.08,6.35) C13(6.35,6.35) C14(7.62,6.35) C15(8.89,6.35) D1(-8.89,5.08) D2(-7.62,5.08) D3(-6.35,5.08) D4(-5.08,5.08) D5(-3.81,5.08) D6(-2.54,5.08) D7(-1.27,5.08) D8(0,5.08) D9(1.27,5.08) D10(2.54,5.08) D11(3.81,5.08) D12(5.08,5.08) D13(6.35,5.08) D14(7.62,5.08) D15(8.89,5.08) E1(-8.89,3.81) E2(-7.62,3.81) E3(-6.35,3.81) E4(-5.08,3.81) E5(-3.81,3.81) E6(-2.54,3.81) E7(-1.27,3.81) E8(0,3.81) E9(1.27,3.81) E10(2.54,3.81) E11(3.81,3.81) E12(5.08,3.81) E13(6.35,3.81) E14(7.62,3.81) E15(8.89,3.81) F1(-8.89,2.54) F2(-7.62,2.54) F3(-6.35,2.54) F4(-5.08,2.54) F5(-3.81,2.54) F6(-2.54,2.54) F7(-1.27,2.54) F8(0,2.54) F9(1.27,2.54) F10(2.54,2.54) F11(3.81,2.54) F12(5.08,2.54) F13(6.35,2.54) F14(7.62,2.54) F15(8.89,2.54) G1(-8.89,1.27) G2(-7.62,1.27) G3(-6.35,1.27) G4(-5.08,1.27) G5(-3.81,1.27) G6(-2.54,1.27) G7(-1.27,1.27) G8(0,1.27) G9(1.27,1.27) G10(2.54,1.27) G11(3.81,1.27) G12(5.08,1.27) G13(6.35,1.27) G14(7.62,1.27) G15(8.89,1.27) H1(-8.89,0) H2(-7.62,0) H3(-6.35,0) H4(-5.08,0) H5(-3.81,0) H6(-2.54,0) H7(-1.27,0) H8(0,0) H9(1.27,0) H10(2.54,0) H11(3.81,0) H12(5.08,0) H13(6.35,0) H14(7.62,0) H15(8.89,0) J1(-8.89,-1.27) J2(-7.62,-1.27) J3(-6.35,-1.27) J4(-5.08,-1.27) J5(-3.81,-1.27) J6(-2.54,-1.27) J7(-1.27,-1.27) J8(0,-1.27) J9(1.27,-1.27) J10(2.54,-1.27) J11(3.81,-1.27) J12(5.08,-1.27) J13(6.35,-1.27) J14(7.62,-1.27) J15(8.89,-1.27) K1(-8.89,-2.54) K2(-7.62,-2.54) K3(-6.35,-2.54) K4(-5.08,-2.54) K5(-3.81,-2.54) K6(-2.54,-2.54) K7(-1.27,-2.54) K8(0,-2.54) K9(1.27,-2.54) K10(2.54,-2.54) K11(3.81,-2.54) K12(5.08,-2.54) K13(6.35,-2.54) K14(7.62,-2.54) K15(8.89,-2.54) L1(-8.89,-3.81) L2(-7.62,-3.81) L3(-6.35,-3.81) L4(-5.08,-3.81) L5(-3.81,-3.81) L6(-2.54,-3.81) L7(-1.27,-3.81) L8(0,-3.81) L9(1.27,-3.81) L10(2.54,-3.81) L11(3.81,-3.81) L12(5.08,-3.81) L13(6.35,-3.81) L14(7.62,-3.81) L15(8.89,-3.81) M1(-8.89,-5.08) M2(-7.62,-5.08) M3(-6.35,-5.08) M4(-5.08,-5.08) M5(-3.81,-5.08) M6(-2.54,-5.08) M7(-1.27,-5.08) M8(0,-5.08) M9(1.27,-5.08) M10(2.54,-5.08) M11(3.81,-5.08) M12(5.08,-5.08) M13(6.35,-5.08) M14(7.62,-5.08) M15(8.89,-5.08) N1(-8.89,-6.35) N2(-7.62,-6.35) N3(-6.35,-6.35) N4(-5.08,-6.35) N5(-3.81,-6.35) N6(-2.54,-6.35) N7(-1.27,-6.35) N8(0,-6.35) N9(1.27,-6.35) N10(2.54,-6.35) N11(3.81,-6.35) N12(5.08,-6.35) N13(6.35,-6.35) N14(7.62,-6.35) N15(8.89,-6.35) P1(-8.89,-7.62) P2(-7.62,-7.62) P3(-6.35,-7.62) P4(-5.08,-7.62) P5(-3.81,-7.62) P6(-2.54,-7.62) P7(-1.27,-7.62) P8(0,-7.62) P9(1.27,-7.62) P10(2.54,-7.62) P11(3.81,-7.62) P12(5.08,-7.62) P13(6.35,-7.62) P14(7.62,-7.62) P15(8.89,-7.62) R1(-8.89,-8.89) R2(-7.62,-8.89) R3(-6.35,-8.89) R4(-5.08,-8.89) R5(-3.81,-8.89) R6(-2.54,-8.89) R7(-1.27,-8.89) R8(0,-8.89) R9(1.27,-8.89) R10(2.54,-8.89) R11(3.81,-8.89) R12(5.08,-8.89) R13(6.35,-8.89) R14(7.62,-8.89) R15(8.89,-8.89)
Top Overlay:
  circle w0.25: c-12.16,8.89 r0.125
  lines w0.2: -11.51,-10.51 -11.51,11.51 10.51,11.51 11.51,10.51 11.51,-10.51 10.51,-11.51 -10.49,-11.51 -11.49,-10.51 -11.51,-10.51

## BGA23x23-B233 [mm] "BGA; 233 Balls; Body 23 x 23 mm; Pitch 1.27 mm"
height 1.96
pads (233):
  round 0.6 smd: A1(-10.16,10.16) A2(-8.89,10.16) A3(-7.62,10.16) A4(-6.35,10.16) A5(-5.08,10.16) A6(-3.81,10.16) A7(-2.54,10.16) A8(-1.27,10.16) A9(0,10.16) A10(1.27,10.16) A11(2.54,10.16) A12(3.81,10.16) A13(5.08,10.16) A14(6.35,10.16) A15(7.62,10.16) A16(8.89,10.16) A17(10.16,10.16) B1(-10.16,8.89) B2(-8.89,8.89) B3(-7.62,8.89) B4(-6.35,8.89) B5(-5.08,8.89) B6(-3.81,8.89) B7(-2.54,8.89) B8(-1.27,8.89) B9(0,8.89) B10(1.27,8.89) B11(2.54,8.89) B12(3.81,8.89) B13(5.08,8.89) B14(6.35,8.89) B15(7.62,8.89) B16(8.89,8.89) B17(10.16,8.89) C1(-10.16,7.62) C2(-8.89,7.62) C3(-7.62,7.62) C4(-6.35,7.62) C5(-5.08,7.62) C6(-3.81,7.62) C7(-2.54,7.62) C8(-1.27,7.62) C9(0,7.62) C10(1.27,7.62) C11(2.54,7.62) C12(3.81,7.62) C13(5.08,7.62) C14(6.35,7.62) C15(7.62,7.62) C16(8.89,7.62) C17(10.16,7.62) D1(-10.16,6.35) D2(-8.89,6.35) D3(-7.62,6.35) D4(-6.35,6.35) D5(-5.08,6.35) D6(-3.81,6.35) D7(-2.54,6.35) D8(-1.27,6.35) D9(0,6.35) D10(1.27,6.35) D11(2.54,6.35) D12(3.81,6.35) D13(5.08,6.35) D14(6.35,6.35) D15(7.62,6.35) D16(8.89,6.35) D17(10.16,6.35) E1(-10.16,5.08) E2(-8.89,5.08) E3(-7.62,5.08) E4(-6.35,5.08) E14(6.35,5.08) E15(7.62,5.08) E16(8.89,5.08) E17(10.16,5.08) F1(-10.16,3.81) F2(-8.89,3.81) F3(-7.62,3.81) F4(-6.35,3.81) F14(6.35,3.81) F15(7.62,3.81) F16(8.89,3.81) F17(10.16,3.81) G1(-10.16,2.54) G2(-8.89,2.54) G3(-7.62,2.54) G4(-6.35,2.54) G7(-2.54,2.54) G8(-1.27,2.54) G9(0,2.54) G10(1.27,2.54) G11(2.54,2.54) G14(6.35,2.54) G15(7.62,2.54) G16(8.89,2.54) G17(10.16,2.54) H1(-10.16,1.27) H2(-8.89,1.27) H3(-7.62,1.27) H4(-6.35,1.27) H7(-2.54,1.27) H8(-1.27,1.27) H9(0,1.27) H10(1.27,1.27) H11(2.54,1.27) H14(6.35,1.27) H15(7.62,1.27) H16(8.89,1.27) H17(10.16,1.27) J1(-10.16,0) J2(-8.89,0) J3(-7.62,0) J4(-6.35,0) J7(-2.54,0) J8(-1.27,0) J9(0,0) J10(1.27,0) J11(2.54,0) J14(6.35,0) J15(7.62,0) J16(8.89,0) J17(10.16,0) K1(-10.16,-1.27) K2(-8.89,-1.27) K3(-7.62,-1.27) K4(-6.35,-1.27) K7(-2.54,-1.27) K8(-1.27,-1.27) K9(0,-1.27) K10(1.27,-1.27) K11(2.54,-1.27) K14(6.35,-1.27) K15(7.62,-1.27) K16(8.89,-1.27) K17(10.16,-1.27) L1(-10.16,-2.54) L2(-8.89,-2.54) L3(-7.62,-2.54) L4(-6.35,-2.54) L7(-2.54,-2.54) L8(-1.27,-2.54) L9(0,-2.54) L10(1.27,-2.54) L11(2.54,-2.54) L14(6.35,-2.54) L15(7.62,-2.54) L16(8.89,-2.54) L17(10.16,-2.54) M1(-10.16,-3.81) M2(-8.89,-3.81) M3(-7.62,-3.81) M4(-6.35,-3.81) M14(6.35,-3.81) M15(7.62,-3.81) M16(8.89,-3.81) M17(10.16,-3.81) N1(-10.16,-5.08) N2(-8.89,-5.08) N3(-7.62,-5.08) N4(-6.35,-5.08) N14(6.35,-5.08) N15(7.62,-5.08) N16(8.89,-5.08) N17(10.16,-5.08) P1(-10.16,-6.35) P2(-8.89,-6.35) P3(-7.62,-6.35) P4(-6.35,-6.35) P5(-5.08,-6.35) P6(-3.81,-6.35) P7(-2.54,-6.35) P8(-1.27,-6.35) P9(0,-6.35) P10(1.27,-6.35) P11(2.54,-6.35) P12(3.81,-6.35) P13(5.08,-6.35) P14(6.35,-6.35) P15(7.62,-6.35) P16(8.89,-6.35) P17(10.16,-6.35) R1(-10.16,-7.62) R2(-8.89,-7.62) R3(-7.62,-7.62) R4(-6.35,-7.62) R5(-5.08,-7.62) R6(-3.81,-7.62) R7(-2.54,-7.62) R8(-1.27,-7.62) R9(0,-7.62) R10(1.27,-7.62) R11(2.54,-7.62) R12(3.81,-7.62) R13(5.08,-7.62) R14(6.35,-7.62) R15(7.62,-7.62) R16(8.89,-7.62) R17(10.16,-7.62) T1(-10.16,-8.89) T2(-8.89,-8.89) T3(-7.62,-8.89) T4(-6.35,-8.89) T5(-5.08,-8.89) T6(-3.81,-8.89) T7(-2.54,-8.89) T8(-1.27,-8.89) T9(0,-8.89) T10(1.27,-8.89) T11(2.54,-8.89) T12(3.81,-8.89) T13(5.08,-8.89) T14(6.35,-8.89) T15(7.62,-8.89) T16(8.89,-8.89) T17(10.16,-8.89) U1(-10.16,-10.16) U2(-8.89,-10.16) U3(-7.62,-10.16) U4(-6.35,-10.16) U5(-5.08,-10.16) U6(-3.81,-10.16) U7(-2.54,-10.16) U8(-1.27,-10.16) U9(0,-10.16) U10(1.27,-10.16) U11(2.54,-10.16) U12(3.81,-10.16) U13(5.08,-10.16) U14(6.35,-10.16) U15(7.62,-10.16) U16(8.89,-10.16) U17(10.16,-10.16)
Top Overlay:
  circle w0.25: c-12.15,10.16 r0.125
  lines w0.2: -11.5,-10.5 -11.5,11.5 10.5,11.5 11.5,10.5 11.5,-10.5 10.5,-11.5 -10.5,-11.5 -11.5,-10.5

## BGA23x23-B289 [mm] "BGA; 289 Balls; Body 23 x 23 mm; Pitch 1.27 mm"
height 3.5
pads (289):
  round 0.6 smd: A1(-10.16,10.16) A2(-8.89,10.16) A3(-7.62,10.16) A4(-6.35,10.16) A5(-5.08,10.16) A6(-3.81,10.16) A7(-2.54,10.16) A8(-1.27,10.16) A9(0,10.16) A10(1.27,10.16) A11(2.54,10.16) A12(3.81,10.16) A13(5.08,10.16) A14(6.35,10.16) A15(7.62,10.16) A16(8.89,10.16) A17(10.16,10.16) B1(-10.16,8.89) B2(-8.89,8.89) B3(-7.62,8.89) B4(-6.35,8.89) B5(-5.08,8.89) B6(-3.81,8.89) B7(-2.54,8.89) B8(-1.27,8.89) B9(0,8.89) B10(1.27,8.89) B11(2.54,8.89) B12(3.81,8.89) B13(5.08,8.89) B14(6.35,8.89) B15(7.62,8.89) B16(8.89,8.89) B17(10.16,8.89) C1(-10.16,7.62) C2(-8.89,7.62) C3(-7.62,7.62) C4(-6.35,7.62) C5(-5.08,7.62) C6(-3.81,7.62) C7(-2.54,7.62) C8(-1.27,7.62) C9(0,7.62) C10(1.27,7.62) C11(2.54,7.62) C12(3.81,7.62) C13(5.08,7.62) C14(6.35,7.62) C15(7.62,7.62) C16(8.89,7.62) C17(10.16,7.62) D1(-10.16,6.35) D2(-8.89,6.35) D3(-7.62,6.35) D4(-6.35,6.35) D5(-5.08,6.35) D6(-3.81,6.35) D7(-2.54,6.35) D8(-1.27,6.35) D9(0,6.35) D10(1.27,6.35) D11(2.54,6.35) D12(3.81,6.35) D13(5.08,6.35) D14(6.35,6.35) D15(7.62,6.35) D16(8.89,6.35) D17(10.16,6.35) E1(-10.16,5.08) E2(-8.89,5.08) E3(-7.62,5.08) E4(-6.35,5.08) E5(-5.08,5.08) E6(-3.81,5.08) E7(-2.54,5.08) E8(-1.27,5.08) E9(0,5.08) E10(1.27,5.08) E11(2.54,5.08) E12(3.81,5.08) E13(5.08,5.08) E14(6.35,5.08) E15(7.62,5.08) E16(8.89,5.08) E17(10.16,5.08) F1(-10.16,3.81) F2(-8.89,3.81) F3(-7.62,3.81) F4(-6.35,3.81) F5(-5.08,3.81) F6(-3.81,3.81) F7(-2.54,3.81) F8(-1.27,3.81) F9(0,3.81) F10(1.27,3.81) F11(2.54,3.81) F12(3.81,3.81) F13(5.08,3.81) F14(6.35,3.81) F15(7.62,3.81) F16(8.89,3.81) F17(10.16,3.81) G1(-10.16,2.54) G2(-8.89,2.54) G3(-7.62,2.54) G4(-6.35,2.54) G5(-5.08,2.54) G6(-3.81,2.54) G7(-2.54,2.54) G8(-1.27,2.54) G9(0,2.54) G10(1.27,2.54) G11(2.54,2.54) G12(3.81,2.54) G13(5.08,2.54) G14(6.35,2.54) G15(7.62,2.54) G16(8.89,2.54) G17(10.16,2.54) H1(-10.16,1.27) H2(-8.89,1.27) H3(-7.62,1.27) H4(-6.35,1.27) H5(-5.08,1.27) H6(-3.81,1.27) H7(-2.54,1.27) H8(-1.27,1.27) H9(0,1.27) H10(1.27,1.27) H11(2.54,1.27) H12(3.81,1.27) H13(5.08,1.27) H14(6.35,1.27) H15(7.62,1.27) H16(8.89,1.27) H17(10.16,1.27) J1(-10.16,0) J2(-8.89,0) J3(-7.62,0) J4(-6.35,0) J5(-5.08,0) J6(-3.81,0) J7(-2.54,0) J8(-1.27,0) J9(0,0) J10(1.27,0) J11(2.54,0) J12(3.81,0) J13(5.08,0) J14(6.35,0) J15(7.62,0) J16(8.89,0) J17(10.16,0) K1(-10.16,-1.27) K2(-8.89,-1.27) K3(-7.62,-1.27) K4(-6.35,-1.27) K5(-5.08,-1.27) K6(-3.81,-1.27) K7(-2.54,-1.27) K8(-1.27,-1.27) K9(0,-1.27) K10(1.27,-1.27) K11(2.54,-1.27) K12(3.81,-1.27) K13(5.08,-1.27) K14(6.35,-1.27) K15(7.62,-1.27) K16(8.89,-1.27) K17(10.16,-1.27) L1(-10.16,-2.54) L2(-8.89,-2.54) L3(-7.62,-2.54) L4(-6.35,-2.54) L5(-5.08,-2.54) L6(-3.81,-2.54) L7(-2.54,-2.54) L8(-1.27,-2.54) L9(0,-2.54) L10(1.27,-2.54) L11(2.54,-2.54) L12(3.81,-2.54) L13(5.08,-2.54) L14(6.35,-2.54) L15(7.62,-2.54) L16(8.89,-2.54) L17(10.16,-2.54) M1(-10.16,-3.81) M2(-8.89,-3.81) M3(-7.62,-3.81) M4(-6.35,-3.81) M5(-5.08,-3.81) M6(-3.81,-3.81) M7(-2.54,-3.81) M8(-1.27,-3.81) M9(0,-3.81) M10(1.27,-3.81) M11(2.54,-3.81) M12(3.81,-3.81) M13(5.08,-3.81) M14(6.35,-3.81) M15(7.62,-3.81) M16(8.89,-3.81) M17(10.16,-3.81) N1(-10.16,-5.08) N2(-8.89,-5.08) N3(-7.62,-5.08) N4(-6.35,-5.08) N5(-5.08,-5.08) N6(-3.81,-5.08) N7(-2.54,-5.08) N8(-1.27,-5.08) N9(0,-5.08) N10(1.27,-5.08) N11(2.54,-5.08) N12(3.81,-5.08) N13(5.08,-5.08) N14(6.35,-5.08) N15(7.62,-5.08) N16(8.89,-5.08) N17(10.16,-5.08) P1(-10.16,-6.35) P2(-8.89,-6.35) P3(-7.62,-6.35) P4(-6.35,-6.35) P5(-5.08,-6.35) P6(-3.81,-6.35) P7(-2.54,-6.35) P8(-1.27,-6.35) P9(0,-6.35) P10(1.27,-6.35) P11(2.54,-6.35) P12(3.81,-6.35) P13(5.08,-6.35) P14(6.35,-6.35) P15(7.62,-6.35) P16(8.89,-6.35) P17(10.16,-6.35) R1(-10.16,-7.62) R2(-8.89,-7.62) R3(-7.62,-7.62) R4(-6.35,-7.62) R5(-5.08,-7.62) R6(-3.81,-7.62) R7(-2.54,-7.62) R8(-1.27,-7.62) R9(0,-7.62) R10(1.27,-7.62) R11(2.54,-7.62) R12(3.81,-7.62) R13(5.08,-7.62) R14(6.35,-7.62) R15(7.62,-7.62) R16(8.89,-7.62) R17(10.16,-7.62) T1(-10.16,-8.89) T2(-8.89,-8.89) T3(-7.62,-8.89) T4(-6.35,-8.89) T5(-5.08,-8.89) T6(-3.81,-8.89) T7(-2.54,-8.89) T8(-1.27,-8.89) T9(0,-8.89) T10(1.27,-8.89) T11(2.54,-8.89) T12(3.81,-8.89) T13(5.08,-8.89) T14(6.35,-8.89) T15(7.62,-8.89) T16(8.89,-8.89) T17(10.16,-8.89) U1(-10.16,-10.16) U2(-8.89,-10.16) U3(-7.62,-10.16) U4(-6.35,-10.16) U5(-5.08,-10.16) U6(-3.81,-10.16) U7(-2.54,-10.16) U8(-1.27,-10.16) U9(0,-10.16) U10(1.27,-10.16) U11(2.54,-10.16) U12(3.81,-10.16) U13(5.08,-10.16) U14(6.35,-10.16) U15(7.62,-10.16) U16(8.89,-10.16) U17(10.16,-10.16)
Top Overlay:
  circle w0.25: c-12.165,10.16 r0.125
  lines w0.2: -11.51,-10.49 -10.51,-11.49 10.49,-11.49 11.49,-10.49 11.49,10.51 10.49,11.51 -11.51,11.51 -11.51,-10.49

## BGA25x25-B241 [mm] "PBGA; 241 Balls; Body 25 x 25 mm; Pitch 1.27 mm"
height 2.05
pads (241):
  round 0.6 smd: A2(-10.16,11.43) A3(-8.89,11.43) A4(-7.62,11.43) A5(-6.35,11.43) A6(-5.08,11.43) A7(-3.81,11.43) A8(-2.54,11.43) A9(-1.27,11.43) A10(0,11.43) A11(1.27,11.43) A12(2.54,11.43) A13(3.81,11.43) A14(5.08,11.43) A15(6.35,11.43) A16(7.62,11.43) A17(8.89,11.43) A18(10.16,11.43) B1(-11.43,10.16) B2(-10.16,10.16) B3(-8.89,10.16) B4(-7.62,10.16) B5(-6.35,10.16) B6(-5.08,10.16) B7(-3.81,10.16) B8(-2.54,10.16) B9(-1.27,10.16) B10(0,10.16) B11(1.27,10.16) B12(2.54,10.16) B13(3.81,10.16) B14(5.08,10.16) B15(6.35,10.16) B16(7.62,10.16) B17(8.89,10.16) B18(10.16,10.16) B19(11.43,10.16) C1(-11.43,8.89) C2(-10.16,8.89) C3(-8.89,8.89) C4(-7.62,8.89) C5(-6.35,8.89) C6(-5.08,8.89) C7(-3.81,8.89) C8(-2.54,8.89) C9(-1.27,8.89) C10(0,8.89) C11(1.27,8.89) C12(2.54,8.89) C13(3.81,8.89) C14(5.08,8.89) C15(6.35,8.89) C16(7.62,8.89) C17(8.89,8.89) C18(10.16,8.89) C19(11.43,8.89) D1(-11.43,7.62) D2(-10.16,7.62) D3(-8.89,7.62) D7(-3.81,7.62) D8(-2.54,7.62) D9(-1.27,7.62) D10(0,7.62) D11(1.27,7.62) D12(2.54,7.62) D13(3.81,7.62) D17(8.89,7.62) D18(10.16,7.62) D19(11.43,7.62) E1(-11.43,6.35) E2(-10.16,6.35) E3(-8.89,6.35) E17(8.89,6.35) E18(10.16,6.35) E19(11.43,6.35) F1(-11.43,5.08) F2(-10.16,5.08) F3(-8.89,5.08) F17(8.89,5.08) F18(10.16,5.08) F19(11.43,5.08) G1(-11.43,3.81) G2(-10.16,3.81) G3(-8.89,3.81) G4(-7.62,3.81) G16(7.62,3.81) G17(8.89,3.81) G18(10.16,3.81) G19(11.43,3.81) H1(-11.43,2.54) H2(-10.16,2.54) H3(-8.89,2.54) H4(-7.62,2.54) H8(-2.54,2.54) H9(-1.27,2.54) H10(0,2.54) H11(1.27,2.54) H12(2.54,2.54) H16(7.62,2.54) H17(8.89,2.54) H18(10.16,2.54) H19(11.43,2.54) J1(-11.43,1.27) J2(-10.16,1.27) J3(-8.89,1.27) J4(-7.62,1.27) J8(-2.54,1.27) J9(-1.27,1.27) J10(0,1.27) J11(1.27,1.27) J12(2.54,1.27) J16(7.62,1.27) J17(8.89,1.27) J18(10.16,1.27) J19(11.43,1.27) K1(-11.43,0) K2(-10.16,0) K3(-8.89,0) K4(-7.62,0) K8(-2.54,0) K9(-1.27,0) K10(0,0) K11(1.27,0) K12(2.54,0) K16(7.62,0) K17(8.89,0) K18(10.16,0) K19(11.43,0) L1(-11.43,-1.27) L2(-10.16,-1.27) L3(-8.89,-1.27) L4(-7.62,-1.27) L8(-2.54,-1.27) L9(-1.27,-1.27) L10(0,-1.27) L11(1.27,-1.27) L12(2.54,-1.27) L16(7.62,-1.27) L17(8.89,-1.27) L18(10.16,-1.27) L19(11.43,-1.27) M1(-11.43,-2.54) M2(-10.16,-2.54) M3(-8.89,-2.54) M4(-7.62,-2.54) M8(-2.54,-2.54) M9(-1.27,-2.54) M10(0,-2.54) M11(1.27,-2.54) M12(2.54,-2.54) M16(7.62,-2.54) M17(8.89,-2.54) M18(10.16,-2.54) M19(11.43,-2.54) N1(-11.43,-3.81) N2(-10.16,-3.81) N3(-8.89,-3.81) N4(-7.62,-3.81) N16(7.62,-3.81) N17(8.89,-3.81) N18(10.16,-3.81) N19(11.43,-3.81) P1(-11.43,-5.08) P2(-10.16,-5.08) P3(-8.89,-5.08) P17(8.89,-5.08) P18(10.16,-5.08) P19(11.43,-5.08) R1(-11.43,-6.35) R2(-10.16,-6.35) R3(-8.89,-6.35) R17(8.89,-6.35) R18(10.16,-6.35) R19(11.43,-6.35) T1(-11.43,-7.62) T2(-10.16,-7.62) T3(-8.89,-7.62) T7(-3.81,-7.62) T8(-2.54,-7.62) T9(-1.27,-7.62) T10(0,-7.62) T11(1.27,-7.62) T12(2.54,-7.62) T13(3.81,-7.62) T17(8.89,-7.62) T18(10.16,-7.62) T19(11.43,-7.62) U1(-11.43,-8.89) U2(-10.16,-8.89) U3(-8.89,-8.89) U4(-7.62,-8.89) U5(-6.35,-8.89) U6(-5.08,-8.89) U7(-3.81,-8.89) U8(-2.54,-8.89) U9(-1.27,-8.89) U10(0,-8.89) U11(1.27,-8.89) U12(2.54,-8.89) U13(3.81,-8.89) U14(5.08,-8.89) U15(6.35,-8.89) U16(7.62,-8.89) U17(8.89,-8.89) U18(10.16,-8.89) U19(11.43,-8.89) V1(-11.43,-10.16) V2(-10.16,-10.16) V3(-8.89,-10.16) V4(-7.62,-10.16) V5(-6.35,-10.16) V6(-5.08,-10.16) V7(-3.81,-10.16) V8(-2.54,-10.16) V9(-1.27,-10.16) V10(0,-10.16) V11(1.27,-10.16) V12(2.54,-10.16) V13(3.81,-10.16) V14(5.08,-10.16) V15(6.35,-10.16) V16(7.62,-10.16) V17(8.89,-10.16) V18(10.16,-10.16) V19(11.43,-10.16) W2(-10.16,-11.43) W3(-8.89,-11.43) W4(-7.62,-11.43) W5(-6.35,-11.43) W6(-5.08,-11.43) W7(-3.81,-11.43) W8(-2.54,-11.43) W9(-1.27,-11.43) W10(0,-11.43) W11(1.27,-11.43) W12(2.54,-11.43) W13(3.81,-11.43) W14(5.08,-11.43) W15(6.35,-11.43) W16(7.62,-11.43) W17(8.89,-11.43) W18(10.16,-11.43)
Top Overlay:
  circle w0.25: c-13.15,11.43 r0.125
  lines w0.2: -12.5,-11.5 -11.5,-12.5 11.5,-12.5 12.5,-11.5 12.5,11.5 11.5,12.5 -12.5,12.5 -12.5,-11.5

## BGA25x25-B324 [mm] "BGA; 324 Balls; Body 25 x 25 mm; Pitch 1.27 mm"
height 3.5
pads (324):
  round 0.6 smd: A1(-10.795,10.795) A2(-9.525,10.795) A3(-8.255,10.795) A4(-6.985,10.795) A5(-5.715,10.795) A6(-4.445,10.795) A7(-3.175,10.795) A8(-1.905,10.795) A9(-0.635,10.795) A10(0.635,10.795) A11(1.905,10.795) A12(3.175,10.795) A13(4.445,10.795) A14(5.715,10.795) A15(6.985,10.795) A16(8.255,10.795) A17(9.525,10.795) A18(10.795,10.795) B1(-10.795,9.525) B2(-9.525,9.525) B3(-8.255,9.525) B4(-6.985,9.525) B5(-5.715,9.525) B6(-4.445,9.525) B7(-3.175,9.525) B8(-1.905,9.525) B9(-0.635,9.525) B10(0.635,9.525) B11(1.905,9.525) B12(3.175,9.525) B13(4.445,9.525) B14(5.715,9.525) B15(6.985,9.525) B16(8.255,9.525) B17(9.525,9.525) B18(10.795,9.525) C1(-10.795,8.255) C2(-9.525,8.255) C3(-8.255,8.255) C4(-6.985,8.255) C5(-5.715,8.255) C6(-4.445,8.255) C7(-3.175,8.255) C8(-1.905,8.255) C9(-0.635,8.255) C10(0.635,8.255) C11(1.905,8.255) C12(3.175,8.255) C13(4.445,8.255) C14(5.715,8.255) C15(6.985,8.255) C16(8.255,8.255) C17(9.525,8.255) C18(10.795,8.255) D1(-10.795,6.985) D2(-9.525,6.985) D3(-8.255,6.985) D4(-6.985,6.985) D5(-5.715,6.985) D6(-4.445,6.985) D7(-3.175,6.985) D8(-1.905,6.985) D9(-0.635,6.985) D10(0.635,6.985) D11(1.905,6.985) D12(3.175,6.985) D13(4.445,6.985) D14(5.715,6.985) D15(6.985,6.985) D16(8.255,6.985) D17(9.525,6.985) D18(10.795,6.985) E1(-10.795,5.715) E2(-9.525,5.715) E3(-8.255,5.715) E4(-6.985,5.715) E5(-5.715,5.715) E6(-4.445,5.715) E7(-3.175,5.715) E8(-1.905,5.715) E9(-0.635,5.715) E10(0.635,5.715) E11(1.905,5.715) E12(3.175,5.715) E13(4.445,5.715) E14(5.715,5.715) E15(6.985,5.715) E16(8.255,5.715) E17(9.525,5.715) E18(10.795,5.715) F1(-10.795,4.445) F2(-9.525,4.445) F3(-8.255,4.445) F4(-6.985,4.445) F5(-5.715,4.445) F6(-4.445,4.445) F7(-3.175,4.445) F8(-1.905,4.445) F9(-0.635,4.445) F10(0.635,4.445) F11(1.905,4.445) F12(3.175,4.445) F13(4.445,4.445) F14(5.715,4.445) F15(6.985,4.445) F16(8.255,4.445) F17(9.525,4.445) F18(10.795,4.445) G1(-10.795,3.175) G2(-9.525,3.175) G3(-8.255,3.175) G4(-6.985,3.175) G5(-5.715,3.175) G6(-4.445,3.175) G7(-3.175,3.175) G8(-1.905,3.175) G9(-0.635,3.175) G10(0.635,3.175) G11(1.905,3.175) G12(3.175,3.175) G13(4.445,3.175) G14(5.715,3.175) G15(6.985,3.175) G16(8.255,3.175) G17(9.525,3.175) G18(10.795,3.175) H1(-10.795,1.905) H2(-9.525,1.905) H3(-8.255,1.905) H4(-6.985,1.905) H5(-5.715,1.905) H6(-4.445,1.905) H7(-3.175,1.905) H8(-1.905,1.905) H9(-0.635,1.905) H10(0.635,1.905) H11(1.905,1.905) H12(3.175,1.905) H13(4.445,1.905) H14(5.715,1.905) H15(6.985,1.905) H16(8.255,1.905) H17(9.525,1.905) H18(10.795,1.905) J1(-10.795,0.635) J2(-9.525,0.635) J3(-8.255,0.635) J4(-6.985,0.635) J5(-5.715,0.635) J6(-4.445,0.635) J7(-3.175,0.635) J8(-1.905,0.635) J9(-0.635,0.635) J10(0.635,0.635) J11(1.905,0.635) J12(3.175,0.635) J13(4.445,0.635) J14(5.715,0.635) J15(6.985,0.635) J16(8.255,0.635) J17(9.525,0.635) J18(10.795,0.635) K1(-10.795,-0.635) K2(-9.525,-0.635) K3(-8.255,-0.635) K4(-6.985,-0.635) K5(-5.715,-0.635) K6(-4.445,-0.635) K7(-3.175,-0.635) K8(-1.905,-0.635) K9(-0.635,-0.635) K10(0.635,-0.635) K11(1.905,-0.635) K12(3.175,-0.635) K13(4.445,-0.635) K14(5.715,-0.635) K15(6.985,-0.635) K16(8.255,-0.635) K17(9.525,-0.635) K18(10.795,-0.635) L1(-10.795,-1.905) L2(-9.525,-1.905) L3(-8.255,-1.905) L4(-6.985,-1.905) L5(-5.715,-1.905) L6(-4.445,-1.905) L7(-3.175,-1.905) L8(-1.905,-1.905) L9(-0.635,-1.905) L10(0.635,-1.905) L11(1.905,-1.905) L12(3.175,-1.905) L13(4.445,-1.905) L14(5.715,-1.905) L15(6.985,-1.905) L16(8.255,-1.905) L17(9.525,-1.905) L18(10.795,-1.905) M1(-10.795,-3.175) M2(-9.525,-3.175) M3(-8.255,-3.175) M4(-6.985,-3.175) M5(-5.715,-3.175) M6(-4.445,-3.175) M7(-3.175,-3.175) M8(-1.905,-3.175) M9(-0.635,-3.175) M10(0.635,-3.175) M11(1.905,-3.175) M12(3.175,-3.175) M13(4.445,-3.175) M14(5.715,-3.175) M15(6.985,-3.175) M16(8.255,-3.175) M17(9.525,-3.175) M18(10.795,-3.175) N1(-10.795,-4.445) N2(-9.525,-4.445) N3(-8.255,-4.445) N4(-6.985,-4.445) N5(-5.715,-4.445) N6(-4.445,-4.445) N7(-3.175,-4.445) N8(-1.905,-4.445) N9(-0.635,-4.445) N10(0.635,-4.445) N11(1.905,-4.445) N12(3.175,-4.445) N13(4.445,-4.445) N14(5.715,-4.445) N15(6.985,-4.445) N16(8.255,-4.445) N17(9.525,-4.445) N18(10.795,-4.445) P1(-10.795,-5.715) P2(-9.525,-5.715) P3(-8.255,-5.715) P4(-6.985,-5.715) P5(-5.715,-5.715) P6(-4.445,-5.715) P7(-3.175,-5.715) P8(-1.905,-5.715) P9(-0.635,-5.715) P10(0.635,-5.715) P11(1.905,-5.715) P12(3.175,-5.715) P13(4.445,-5.715) P14(5.715,-5.715) P15(6.985,-5.715) P16(8.255,-5.715) P17(9.525,-5.715) P18(10.795,-5.715) R1(-10.795,-6.985) R2(-9.525,-6.985) R3(-8.255,-6.985) R4(-6.985,-6.985) R5(-5.715,-6.985) R6(-4.445,-6.985) R7(-3.175,-6.985) R8(-1.905,-6.985) R9(-0.635,-6.985) R10(0.635,-6.985) R11(1.905,-6.985) R12(3.175,-6.985) R13(4.445,-6.985) R14(5.715,-6.985) R15(6.985,-6.985) R16(8.255,-6.985) R17(9.525,-6.985) R18(10.795,-6.985) T1(-10.795,-8.255) T2(-9.525,-8.255) T3(-8.255,-8.255) T4(-6.985,-8.255) T5(-5.715,-8.255) T6(-4.445,-8.255) T7(-3.175,-8.255) T8(-1.905,-8.255) T9(-0.635,-8.255) T10(0.635,-8.255) T11(1.905,-8.255) T12(3.175,-8.255) T13(4.445,-8.255) T14(5.715,-8.255) T15(6.985,-8.255) T16(8.255,-8.255) T17(9.525,-8.255) T18(10.795,-8.255) U1(-10.795,-9.525) U2(-9.525,-9.525) U3(-8.255,-9.525) U4(-6.985,-9.525) U5(-5.715,-9.525) U6(-4.445,-9.525) U7(-3.175,-9.525) U8(-1.905,-9.525) U9(-0.635,-9.525) U10(0.635,-9.525) U11(1.905,-9.525) U12(3.175,-9.525) U13(4.445,-9.525) U14(5.715,-9.525) U15(6.985,-9.525) U16(8.255,-9.525) U17(9.525,-9.525) U18(10.795,-9.525) V1(-10.795,-10.795) V2(-9.525,-10.795) V3(-8.255,-10.795) V4(-6.985,-10.795) V5(-5.715,-10.795) V6(-4.445,-10.795) V7(-3.175,-10.795) V8(-1.905,-10.795) V9(-0.635,-10.795) V10(0.635,-10.795) V11(1.905,-10.795) V12(3.175,-10.795) V13(4.445,-10.795) V14(5.715,-10.795) V15(6.985,-10.795) V16(8.255,-10.795) V17(9.525,-10.795) V18(10.795,-10.795)
Top Overlay:
  circle w0.25: c-13.15,10.795 r0.125
  lines w0.2: -12.495,-11.505 -11.495,-12.505 11.505,-12.505 12.505,-11.505 12.505,11.495 11.505,12.495 -12.495,12.495 -12.495,-11.505